# Altium schematic symbol library AltiumLibrary.SchLib: 93 symbols
Pins are listed as number, name and electrical type; pins without a type are passive.

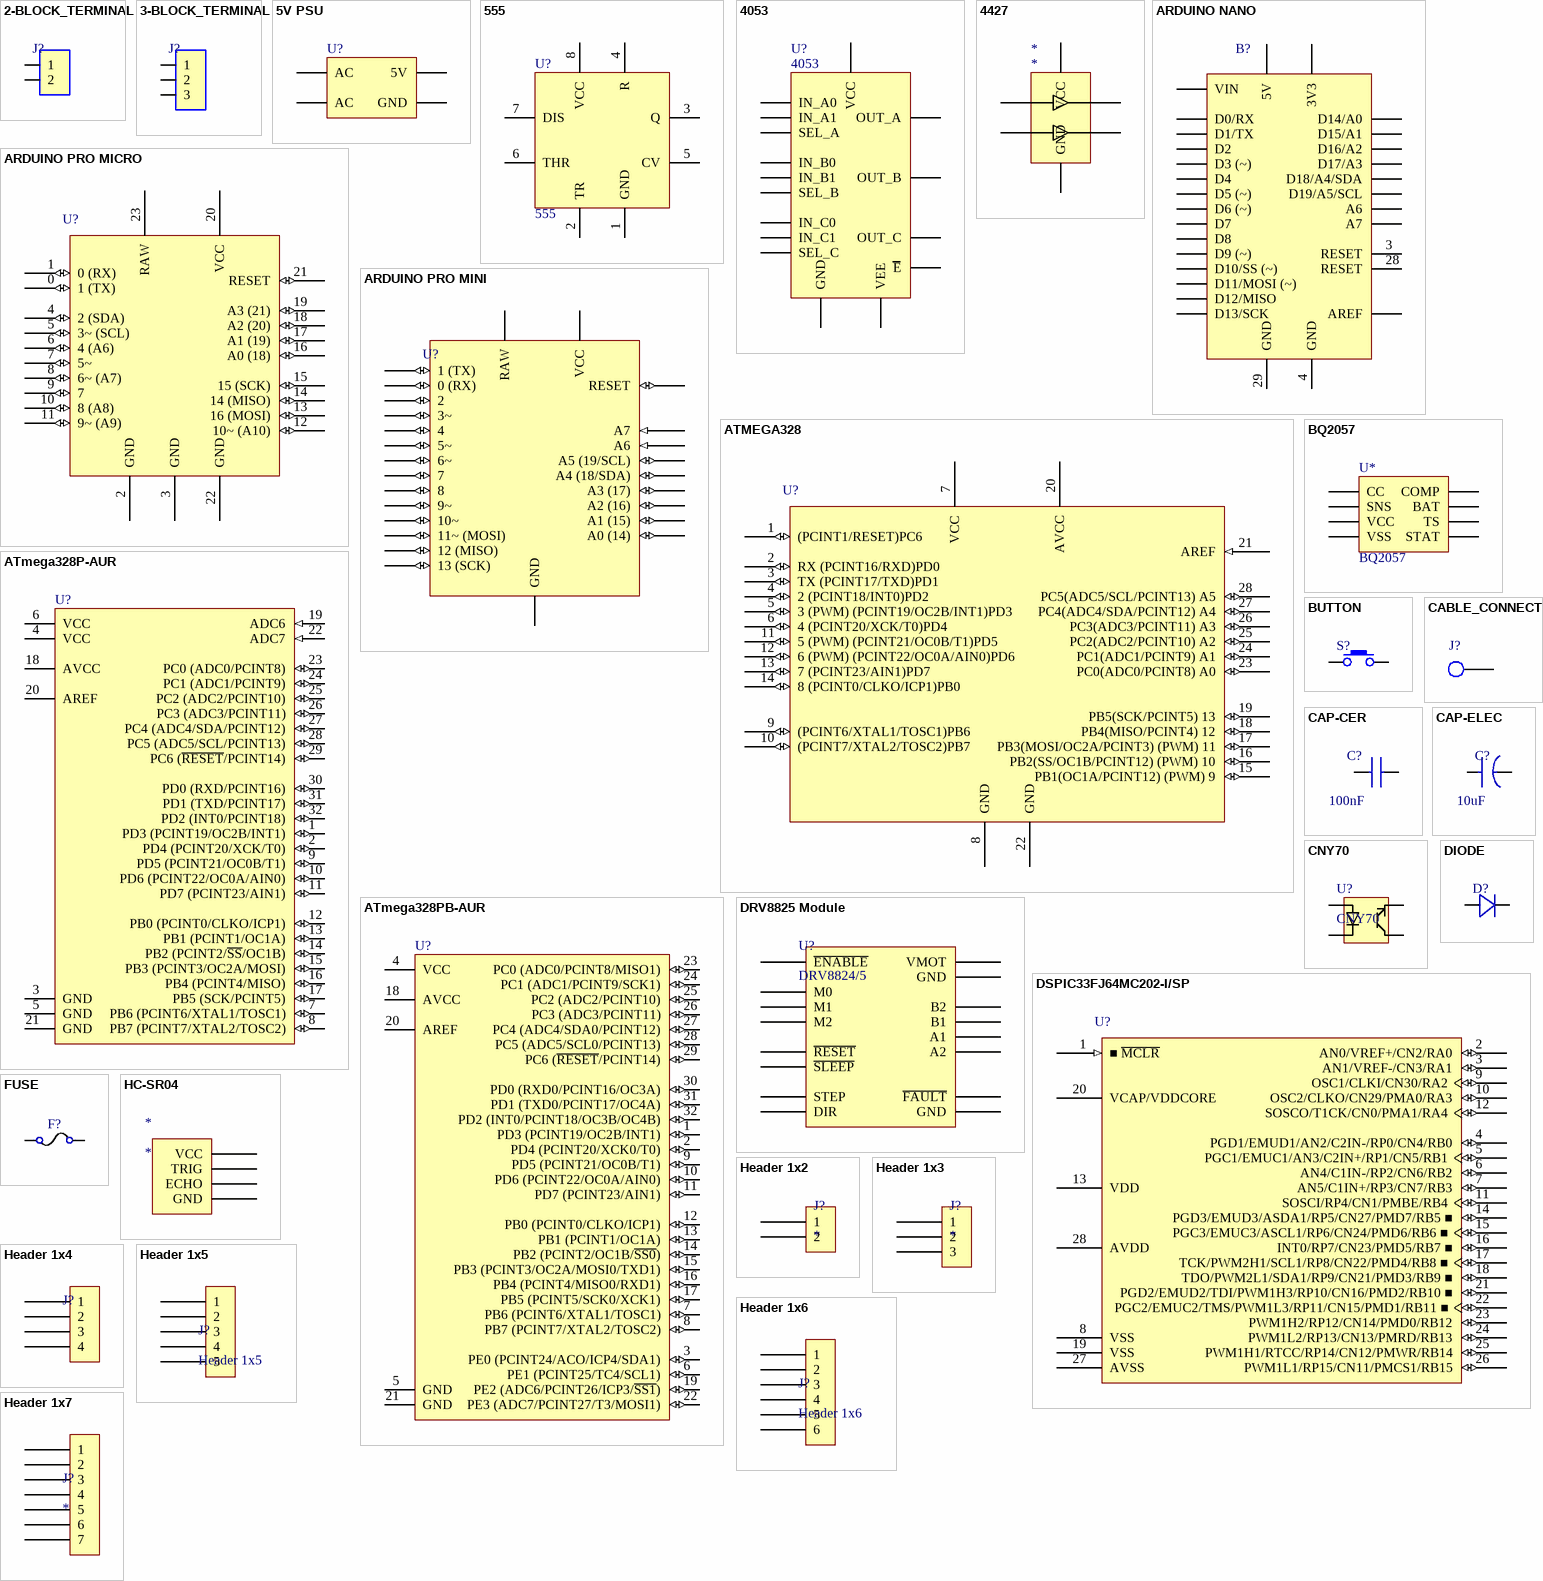
[diagram p0: symbols 2-BLOCK_TERMINAL to Header 1x7]

## 2-BLOCK_TERMINAL
designator J?  (value not drawn)
footprint BLOCK_TERMINAL-2
pins: 1, 2

## 3-BLOCK_TERMINAL
designator J?  (value not drawn)
footprint BLOCK_TERMINAL 3
pins: 1, 2, 3

## 5V PSU
designator U?  (value not drawn)
footprint HLK-PM01
pins: 1 AC, 2 AC, 3 5V, 4 GND

## 555
designator U?
footprint DIP8
footprint SOIC-8
pins: 1 GND, 2 TR, 3 Q, 4 R, 5 CV, 6 THR, 7 DIS, 8 VCC

## 4053
designator U?
footprint DIP16
pins: 1 IN_B1, 2 IN_B0, 3 IN_C1, 4 OUT_C, 5 IN_C0, 6 E, 7 VEE, 8 GND, 9 SEL_C, 10 SEL_B, 11 SEL_A, 12 IN_A0, 13 IN_A1, 14 OUT_A, 15 OUT_B, 16 VCC

## 4427
designator *
footprint SOIC-8
pins: 2 INA, 3 GND, 4 INB, 5 OUTB, 6 VCC, 7 OUTA

## ARDUINO NANO
designator B?
Manufacturer_Name: Arduino; Manufacturer_Part_Number: Nano; Allied_Number: 70518857; Geometry.Height: 7.62mm; RS Part Number: 6961667; RS Price/Stock: http://uk.rs-online.com/web/p/products/6961667; Allied Price/Stock: http://www.alliedelec.com/arduino-a000005/70518857/; Arrow Part Number: Nano; Arrow Price/Stock: http://uk.rs-online.com/web/p/products/6961667; Datasheet Link: http://docs-europe.electrocomponents.com/webdocs/0db9/0900766b80db99cb.pdf
footprint ARDUINO NANO
pins: 1 D1/TX, 2 D0/RX, 3 RESET, 4 GND, 5 D2, 6 D3 (~), 7 D4, 8 D5 (~), 9 D6 (~), 10 D7, 11 D8, 12 D9 (~), 13 D10/SS (~), 14 D11/MOSI (~), 15 D12/MISO, 16 D13/SCK, 17 3V3, 18 AREF, 19 D14/A0, 20 D15/A1, 21 D16/A2, 22 D17/A3, 23 D18/A4/SDA, 24 D19/A5/SCL, 25 A6, 26 A7, 27 5V, 28 RESET, 29 GND, 30 VIN

## ARDUINO PRO MICRO
designator U?, comment Arduino Pro Micro  (value not drawn)
footprint ARDUINO PRO MICRO
pins: 0 1 (TX) (io), 1 0 (RX) (io), 2 GND (power), 3 GND (power), 4 2 (SDA) (io), 5 3~ (SCL) (io), 6 4 (A6) (io), 7 5~ (io), 8 6~ (A7) (io), 9 7 (io), 10 8 (A8) (io), 11 9~ (A9) (io), 12 10~ (A10) (io), 13 16 (MOSI) (io), 14 14 (MISO) (io), 15 15 (SCK) (io), 16 A0 (18) (io), 17 A1 (19) (io), 18 A2 (20) (io), 19 A3 (21) (io), 20 VCC (power), 21 RESET (io), 22 GND (power), 23 RAW (power)

## ARDUINO PRO MINI
designator U?, comment Arduino Pro Mini  (value not drawn)
footprint ARDUINO PRO MINI
pins: 0 1 (TX) (io), 1 0 (RX) (io), 4 2 (io), 5 3~ (io), 6 4 (io), 7 5~ (io), 8 6~ (io), 9 7 (io), 10 8 (io), 11 9~ (io), 12 10~ (io), 13 11~ (MOSI) (io), 14 12 (MISO) (io), 15 13 (SCK) (io), 16 A0 (14) (io), 17 A1 (15) (io), 18 A2 (16) (io), 19 A3 (17) (io), 20 A4 (18/SDA) (io), 21 A5 (19/SCL) (io), 22 A6 (in), 23 A7 (in), 24 VCC (power), 25 RESET (io), 26 GND (power), 27 RAW (power)

## ATMEGA328
designator U?  (value not drawn)
footprint DIP28
pins: 1 (PCINT1/RESET)PC6 (io), 2 RX (PCINT16/RXD)PD0 (io), 3 TX (PCINT17/TXD)PD1 (io), 4 2 (PCINT18/INT0)PD2 (io), 5 3 (PWM) (PCINT19/OC2B/INT1)PD3 (io), 6 4 (PCINT20/XCK/T0)PD4 (io), 7 VCC (power), 8 GND (power), 9 (PCINT6/XTAL1/TOSC1)PB6 (io), 10 (PCINT7/XTAL2/TOSC2)PB7 (io), 11 5 (PWM) (PCINT21/OC0B/T1)PD5 (io), 12 6 (PWM) (PCINT22/OC0A/AIN0)PD6 (io), 13 7 (PCINT23/AIN1)PD7 (io), 14 8 (PCINT0/CLKO/ICP1)PB0  (io), 15 PB1(OC1A/PCINT12) (PWM) 9 (io), 16 PB2(SS/OC1B/PCINT12) (PWM) 10 (io), 17 PB3(MOSI/OC2A/PCINT3) (PWM) 11 (io), 18 PB4(MISO/PCINT4) 12 (io), 19 PB5(SCK/PCINT5) 13 (io), 20 AVCC (power), 21 AREF (in), 22 GND (power), 23 PC0(ADC0/PCINT8) A0 (io), 24 PC1(ADC1/PCINT9) A1 (io), 25 PC2(ADC2/PCINT10) A2 (io), 26 PC3(ADC3/PCINT11) A3 (io), 27 PC4(ADC4/SDA/PCINT12) A4 (io), 28 PC5(ADC5/SCL/PCINT13) A5 (io)

## ATmega328P-AUR
designator U?
8-bit AVR Microcontroller, 32KB Flash, 1KB EEPROM, 2KB SRAM, 32-pin TQFP, Industrial Grade (-40°C to 85°C), Reel; DatasheetVersion: revD, May-2011; PackageVersion: revC, Oct-2010; PackageReference: 32A; PackageDescription: 32-Lead, 7x7x1.0 mm Body, 0.8mm Lead Pitch, Thin Profile Plastic Quad Flat Package (TQFP); Code_JEDEC: MS-026-ABA; ComponentLink1Description: Manufacturer URL; ComponentLink1URL: http://www.atmel.com/; ComponentLink2Description: ATmega48A/48PA/88A/88PA/168A/168PA/328/328P Datasheet; ComponentLink2URL: http://www.atmel.com/dyn/resources/prod_documents/doc8271.pdf; ComponentLink3Description: ATmega48A/48PA/88A/88PA/168A/168PA/328/328P Summary; ComponentLink3URL: http://www.atmel.com/dyn/resources/prod_documents/8271S.pdf
footprint 32A_N (Thin QFP, 32-Leads, Body 7x7mm, Pitch 0.8mm, IPC Medium Density)
footprint 32A_L (Thin QFP, 32-Leads, Body 7x7mm, Pitch 0.8mm, IPC High Density)
footprint 32A_M (Thin QFP, 32-Leads, Body 7x7mm, Pitch 0.8mm, IPC Low Density)
pins: 1 PD3 (PCINT19/OC2B/INT1) (io), 2 PD4 (PCINT20/XCK/T0) (io), 3 GND (power), 4 VCC (power), 5 GND (power), 6 VCC (power), 7 PB6 (PCINT6/XTAL1/TOSC1) (io), 8 PB7 (PCINT7/XTAL2/TOSC2) (io), 9 PD5 (PCINT21/OC0B/T1) (io), 10 PD6 (PCINT22/OC0A/AIN0) (io), 11 PD7 (PCINT23/AIN1) (io), 12 PB0 (PCINT0/CLKO/ICP1) (io), 13 PB1 (PCINT1/OC1A) (io), 14 PB2 (PCINT2/~{SS}/OC1B) (io), 15 PB3 (PCINT3/OC2A/MOSI) (io), 16 PB4 (PCINT4/MISO) (io), 17 PB5 (SCK/PCINT5) (io), 18 AVCC (power), 19 ADC6 (in), 20 AREF, 21 GND (power), 22 ADC7 (in), 23 PC0 (ADC0/PCINT8) (io), 24 PC1 (ADC1/PCINT9) (io), 25 PC2 (ADC2/PCINT10) (io), 26 PC3 (ADC3/PCINT11) (io), 27 PC4 (ADC4/SDA/PCINT12) (io), 28 PC5 (ADC5/SCL/PCINT13) (io), 29 PC6 (~{RESET}/PCINT14) (io), 30 PD0 (RXD/PCINT16) (io), 31 PD1 (TXD/PCINT17) (io), 32 PD2 (INT0/PCINT18) (io)

## ATmega328PB-AUR
designator U?
8-bit AVR Microcontroller, 32KB Flash, 1KB EEPROM, 2KB SRAM, 32-pin TQFP, Industrial Grade (-40°C to 85°C), Reel; DatasheetVersion: revD, May-2011; PackageVersion: revC, Oct-2010; PackageReference: 32A; PackageDescription: 32-Lead, 7x7x1.0 mm Body, 0.8mm Lead Pitch, Thin Profile Plastic Quad Flat Package (TQFP); Code_JEDEC: MS-026-ABA; ComponentLink1Description: Manufacturer URL; ComponentLink1URL: http://www.atmel.com/; ComponentLink2Description: ATmega48A/48PA/88A/88PA/168A/168PA/328/328P Datasheet; ComponentLink2URL: http://www.atmel.com/dyn/resources/prod_documents/doc8271.pdf; ComponentLink3Description: ATmega48A/48PA/88A/88PA/168A/168PA/328/328P Summary; ComponentLink3URL: http://www.atmel.com/dyn/resources/prod_documents/8271S.pdf
footprint 32A_N (Thin QFP, 32-Leads, Body 7x7mm, Pitch 0.8mm, IPC Medium Density)
footprint 32A_L (Thin QFP, 32-Leads, Body 7x7mm, Pitch 0.8mm, IPC High Density)
footprint 32A_M (Thin QFP, 32-Leads, Body 7x7mm, Pitch 0.8mm, IPC Low Density)
pins: 1 PD3 (PCINT19/OC2B/INT1) (io), 2 PD4 (PCINT20/XCK0/T0) (io), 3 PE0 (PCINT24/ACO/ICP4/SDA1) (io), 4 VCC (power), 5 GND (power), 6 PE1 (PCINT25/TC4/SCL1) (io), 7 PB6 (PCINT6/XTAL1/TOSC1) (io), 8 PB7 (PCINT7/XTAL2/TOSC2) (io), 9 PD5 (PCINT21/OC0B/T1) (io), 10 PD6 (PCINT22/OC0A/AIN0) (io), 11 PD7 (PCINT23/AIN1) (io), 12 PB0 (PCINT0/CLKO/ICP1) (io), 13 PB1 (PCINT1/OC1A) (io), 14 PB2 (PCINT2/OC1B/~{SS0}) (io), 15 PB3 (PCINT3/OC2A/MOSI0/TXD1) (io), 16 PB4 (PCINT4/MISO0/RXD1) (io), 17 PB5 (PCINT5/SCK0/XCK1) (io), 18 AVCC (power), 19 PE2 (ADC6/PCINT26/ICP3/~{SS1}) (io), 20 AREF, 21 GND (power), 22 PE3 (ADC7/PCINT27/T3/MOSI1) (io), 23 PC0 (ADC0/PCINT8/MISO1) (io), 24 PC1 (ADC1/PCINT9/SCK1) (io), 25 PC2 (ADC2/PCINT10) (io), 26 PC3 (ADC3/PCINT11) (io), 27 PC4 (ADC4/SDA0/PCINT12) (io), 28 PC5 (ADC5/SCL0/PCINT13) (io), 29 PC6 (~{RESET}/PCINT14) (io), 30 PD0 (RXD0/PCINT16/OC3A) (io), 31 PD1 (TXD0/PCINT17/OC4A) (io), 32 PD2 (INT0/PCINT18/OC3B/OC4B) (io)

## BQ2057
designator U*
footprint SOIC-8
pins: 1 SNS, 2 BAT, 3 VCC, 4 TS, 5 STAT, 6 VSS, 7 CC, 8 COMP

## BUTTON
designator S?  (value not drawn)
footprint TACT_SWITCH-SMALL-4PIN
footprint TACT-SWITCH-SMD
pins: 1, 2

## CABLE_CONNECTOR
designator J?  (value not drawn)
footprint CABLE_CONNECTOR
pins: 0

## CAP-CER
designator C?  value 100nF  (hidden comment: *)
footprint CAP-CER
footprint C0603
footprint C1206
footprint C0805
footprint CAP_POL_20MM
pins: 1, 2

## CAP-ELEC
designator C?  value 10uF  (hidden comment: *)
footprint CAP-ELEC-5x11x2mm
footprint CAP-CASE-D
pins: 1, 2

## CNY70
designator U?
footprint CNY70
pins: A, C, E 7.5, K

## DIODE
designator D?  (value not drawn)
NAME: 1N4007
footprint DO-41
footprint DO-214AC
footprint DO-41 VERTICAL
pins: A, K

## DRV8825 Module
designator U?, comment DRV8824/5
footprint DRV8825 MDL
pins: 1 ~{ENABLE}, 2 M0, 3 M1, 4 M2, 5 ~{RESET}, 6 ~{SLEEP}, 7 STEP, 8 DIR, 9 GND, 10 ~{FAULT}, 11 A2, 12 A1, 13 B1, 14 B2, 15 GND, 16 VMOT

## DSPIC33FJ64MC202-I/SP
designator U?
High-Performance 16-bit Digital Signal Controller, 64 KB Flash, 8 KB RAM, 28-Pin SPDIP, Industrial Temperature; Published: 29-Jan-2009; LatestRevisionDate: 02-Dec-2009; LatestRevisionNote: Updated to datasheet revision D, Nov-2009; DatasheetVersion: revD, Nov-2009; PackageVersion: revBB, Aug-2009; PackageReference: SPDIP300-SP28; Publisher: Altium Limited; PackageDescription: 28-Lead Skinny Plastic Dual In-Line (SP) - 300 mil Body [SPDIP]; Supplier 1: Digi-Key; Supplier Part Number 1: DSPIC33FJ64MC202-I/SP-ND; Supplier 2: Farnell; Supplier Part Number 2: 1576836; ComponentLink1Description: Datasheet; ComponentLink1URL: http://ww1.microchip.com/downloads/en/DeviceDoc/70291D.pdf; ComponentLink2Description: Packaging Specification; ComponentLink2URL: http://www.microchip.com/stellent/groups/techpub_sg/documents/packagingspec/en012702.pdf; ComponentLink3Description: Microchip.com Home; ComponentLink3URL: http://www.microchip.com/
footprint DIP28
pins: 1 ■ ~{MCLR} (in), 2 AN0/VREF+/CN2/RA0 (io), 3 AN1/VREF-/CN3/RA1 (io), 4 PGD1/EMUD1/AN2/C2IN-/RP0/CN4/RB0 (io), 5 PGC1/EMUC1/AN3/C2IN+/RP1/CN5/RB1 (io), 6 AN4/C1IN-/RP2/CN6/RB2 (io), 7 AN5/C1IN+/RP3/CN7/RB3 (io), 8 VSS (power), 9 OSC1/CLKI/CN30/RA2 (io), 10 OSC2/CLKO/CN29/PMA0/RA3 (io), 11 SOSCI/RP4/CN1/PMBE/RB4 (io), 12 SOSCO/T1CK/CN0/PMA1/RA4 (io), 13 VDD (power), 14 PGD3/EMUD3/ASDA1/RP5/CN27/PMD7/RB5 ■ (io), 15 PGC3/EMUC3/ASCL1/RP6/CN24/PMD6/RB6 ■ (io), 16 INT0/RP7/CN23/PMD5/RB7 ■ (io), 17 TCK/PWM2H1/SCL1/RP8/CN22/PMD4/RB8 ■ (io), 18 TDO/PWM2L1/SDA1/RP9/CN21/PMD3/RB9 ■ (io), 19 VSS (power), 20 VCAP/VDDCORE (power), 21 PGD2/EMUD2/TDI/PWM1H3/RP10/CN16/PMD2/RB10 ■ (io), 22 PGC2/EMUC2/TMS/PWM1L3/RP11/CN15/PMD1/RB11 ■ (io), 23 PWM1H2/RP12/CN14/PMD0/RB12 (io), 24 PWM1L2/RP13/CN13/PMRD/RB13 (io), 25 PWM1H1/RTCC/RP14/CN12/PMWR/RB14 (io), 26 PWM1L1/RP15/CN11/PMCS1/RB15 (io), 27 AVSS (power), 28 AVDD (power)

## FUSE
designator F?  (value not drawn)
RATING: 200mA
footprint FUSE_HOLDER_5x20
pins: 1 (power), 2 (power)

## HC-SR04
designator *
footprint HC-SR04
pins: 1 VCC, 2 TRIG, 3 ECHO, 4 GND

## Header 1x2
designator J?
footprint HEADER 1x2
pins: 1, 2

## Header 1x3
designator J?
footprint Header 1x3
pins: 1, 2, 3

## Header 1x4
designator J?  (value not drawn)
footprint Header 1x4
pins: 1, 2, 3, 4

## Header 1x5
designator J?
footprint Header 1x5
pins: 1, 2, 3, 4, 5

## Header 1x6
designator J?
footprint Header 1x6
pins: 1, 2, 3, 4, 5, 6

## Header 1x7
designator J?
footprint Header 1x7
pins: 1, 2, 3, 4, 5, 6, 7

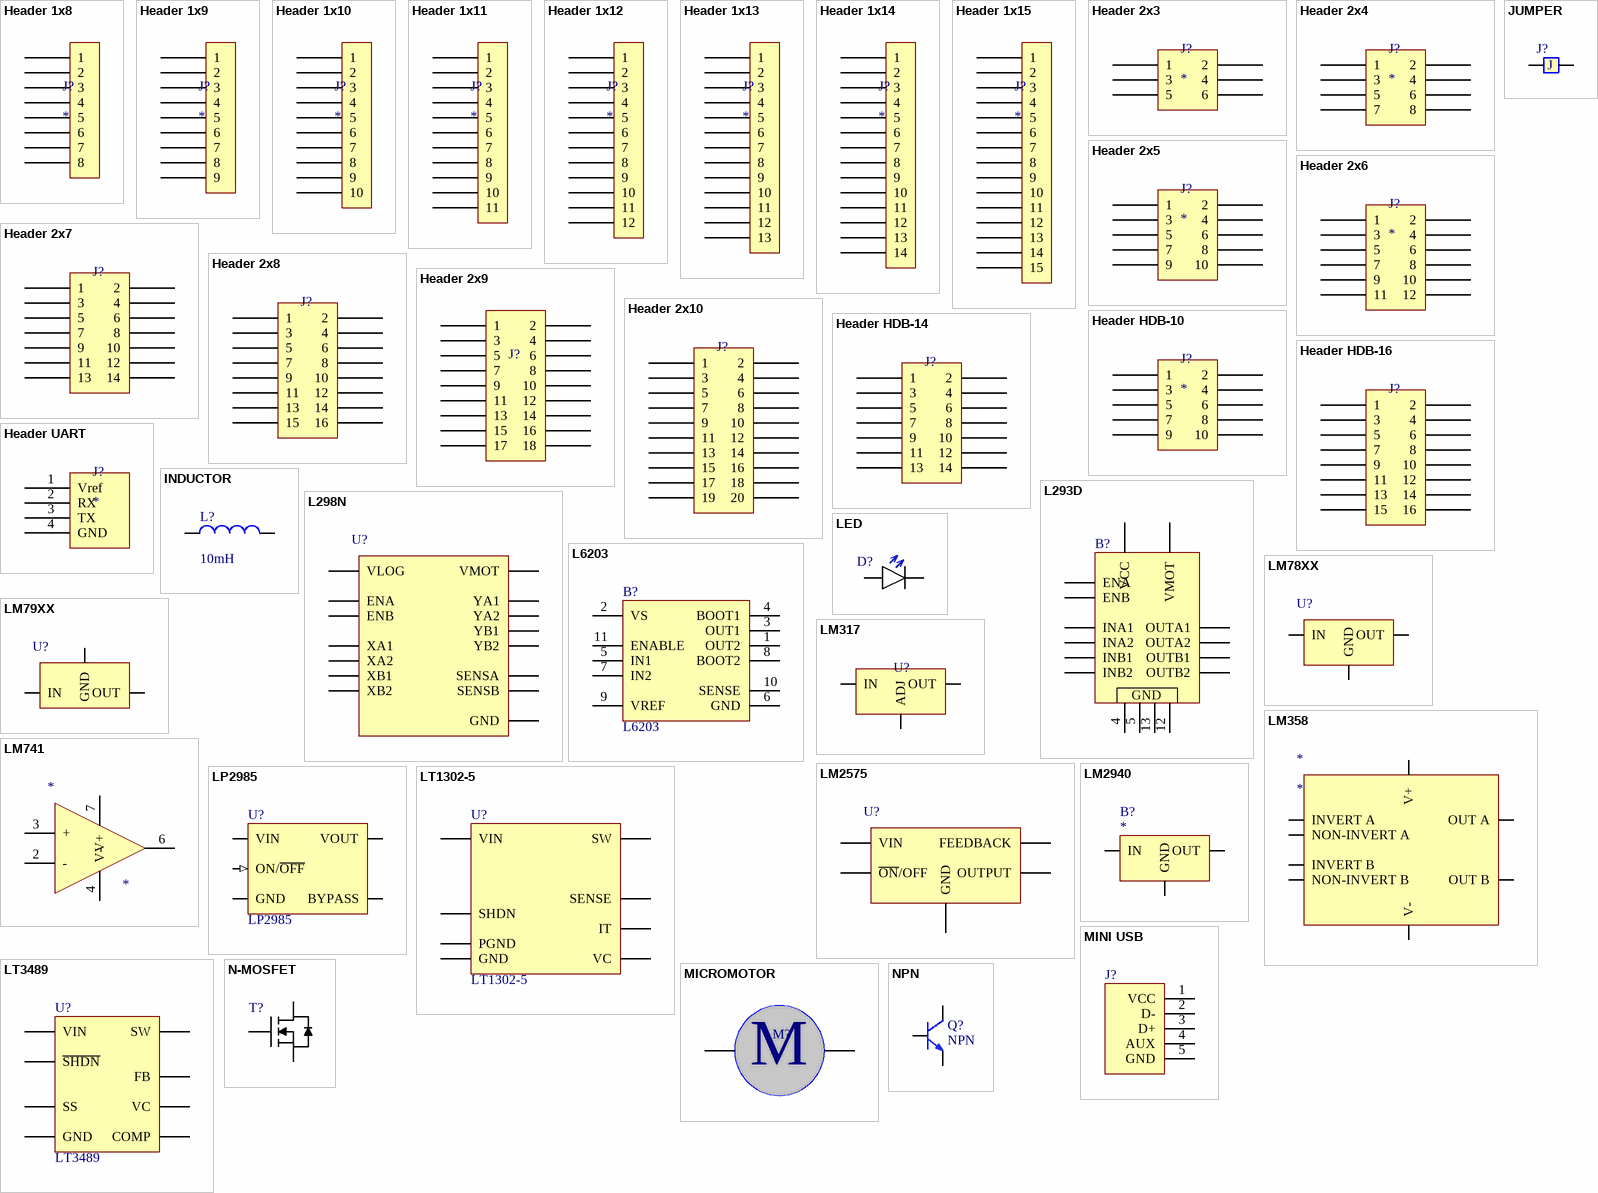
[diagram p1: symbols Header 1x8 to NPN]

## Header 1x8
designator J?
footprint HEADER 1X8
pins: 1, 2, 3, 4, 5, 6, 7, 8

## Header 1x9
designator J?
footprint HEADER 1x9
pins: 1, 2, 3, 4, 5, 6, 7, 8, 9

## Header 1x10
designator J?
footprint HEADER 1x10
pins: 1, 2, 3, 4, 5, 6, 7, 8, 9, 10

## Header 1x11
designator J?
footprint Header 1x11
pins: 1, 2, 3, 4, 5, 6, 7, 8, 9, 10, 11

## Header 1x12
designator J?
footprint Header 1x12
pins: 1, 2, 3, 4, 5, 6, 7, 8, 9, 10, 11, 12

## Header 1x13
designator J?
footprint Header 1x13
pins: 1, 2, 3, 4, 5, 6, 7, 8, 9, 10, 11, 12, 13

## Header 1x14
designator J?
footprint Header 1x14
pins: 1, 2, 3, 4, 5, 6, 7, 8, 9, 10, 11, 12, 13, 14

## Header 1x15
designator J?
footprint Header 1x15
pins: 1, 2, 3, 4, 5, 6, 7, 8, 9, 10, 11, 12, 13, 14, 15

## Header 2x3
designator J?
footprint HEADER 2x3
pins: 1, 2, 3, 4, 5, 6

## Header 2x4
designator J?
footprint HEADER 2x4
pins: 1, 2, 3, 4, 5, 6, 7, 8

## Header 2x5
designator J?
footprint HEADER 2x5
pins: 1, 2, 3, 4, 5, 6, 7, 8, 9, 10

## Header 2x6
designator J?
footprint HEADER 2x6
pins: 1, 2, 3, 4, 5, 6, 7, 8, 9, 10, 11, 12

## Header 2x7
designator J?  (value not drawn)
footprint HEADER 2x7
pins: 1, 2, 3, 4, 5, 6, 7, 8, 9, 10, 11, 12, 13, 14

## Header 2x8
designator J?  (value not drawn)
footprint HEADER 2x8
pins: 1, 2, 3, 4, 5, 6, 7, 8, 9, 10, 11, 12, 13, 14, 15, 16

## Header 2x9
designator J?  (value not drawn)
footprint HEADER 2x9
pins: 1, 2, 3, 4, 5, 6, 7, 8, 9, 10, 11, 12, 13, 14, 15, 16, 17, 18

## Header 2x10
designator J?  (value not drawn)
footprint HEADER 2x10
pins: 1, 2, 3, 4, 5, 6, 7, 8, 9, 10, 11, 12, 13, 14, 15, 16, 17, 18, 19, 20

## Header HDB-10
designator J?
footprint HEADER 2x5
pins: 1, 2, 3, 4, 5, 6, 7, 8, 9, 10

## Header HDB-14
designator J?  (value not drawn)
footprint HEADER 2x7
pins: 1, 2, 3, 4, 5, 6, 7, 8, 9, 10, 11, 12, 13, 14

## Header HDB-16
designator J?  (value not drawn)
footprint HEADER 2x8
pins: 1, 2, 3, 4, 5, 6, 7, 8, 9, 10, 11, 12, 13, 14, 15, 16

## Header UART
designator J?
footprint Header 1x4
pins: 1 Vref, 2 RX, 3 TX, 4 GND

## INDUCTOR
designator L?  value 10mH
footprint DRQ127-INDUCTOR
footprint RADIAL-7x10
footprint IND_AXIAL_400mil
footprint CTXxx-3
pins: 1, 2

## JUMPER
designator J?  (value not drawn)
footprint JUMPER
pins: 1, 2
text: J

## L293D
designator B?
footprint DIP16
footprint SOIC-16
pins: 1 ENA, 2 INA1, 3 OUTA1, 4, 5, 6 OUTA2, 7 INA2, 8 VMOT, 9 ENB, 10 INB1, 11 OUTB1, 12, 13, 14 OUTB2, 15 INB2, 16 VCC
text: GND

## L298N
designator U?  (value not drawn)
footprint Multiwatt15
pins: 1 SENSA, 2 YA1, 3 YA2, 4 VMOT, 5 XA1, 6 ENA, 7 XA2, 8 GND, 9 VLOG, 10 XB2, 11 ENB, 12 XB1, 13 YB1, 14 YB2, 15 SENSB

## L6203
designator B?
DC motor controller,L6203 0-48V STMicroelectronics L6203, Motor Controller Full Bridge Motor,, 11-Pin MULTIWATT V; Geometry.Height: 5mm; Arrow Part Number: L6203; Manufacturer_Name: STMicroelectronics; Manufacturer_Part_Number: L6203; Datasheet Link: https://www.arrow.com/en/products/l6203/stmicroelectronics
footprint MUTIWATT11
pins: 1 OUT2, 2 VS (power), 3 OUT1, 4 BOOT1, 5 IN1, 6 GND, 7 IN2, 8 BOOT2, 9 VREF (power), 10 SENSE, 11 ENABLE

## LED
designator D?  (value not drawn)
footprint LED-3MM-GREEN
footprint LED-3MM-YELLOW
footprint LED-3MM-RED
footprint LED-0603-GREEN
footprint LED-0603-RED
footprint LED-0603-YELLOW
footprint LED-5MM-CLEAR
footprint LED-5MM-RED-90
footprint LED-5MM-RED-90-2
pins: A, K

## LM78XX
designator U?  (value not drawn)
footprint TO-220
footprint TO-252
footprint TO-220-FLAT
pins: 1 IN (power), 2 GND (power), 3 OUT (power)

## LM79XX
designator U?  (value not drawn)
footprint TO-220
footprint TO-252
footprint TO-220-FLAT
pins: 1 GND (power), 2 IN (power), 3 OUT (power)

## LM317
designator U?  (value not drawn)
footprint TO-220-FLAT
footprint TO-252
footprint TO-220
pins: 1 IN (power), 2 ADJ (power), 3 OUT (power)

## LM358
designator *
footprint DIP8
footprint SOIC-8
pins: 1 OUT A, 2 INVERT A, 3 NON-INVERT A, 4 V-, 5 NON-INVERT B, 6 INVERT B, 7  OUT B, 8 V+ 

## LM741
designator *
footprint SOIC-8
footprint DIP8
pins: 2 -, 3 +, 4 V-, 6 OUT, 7 V+

## LM2575
designator U?  (value not drawn)
footprint TO-220-5PIN
pins: 1 VIN (power), 2 OUTPUT (power), 3 GND (power), 4 FEEDBACK (power), 5 ~{ON}/OFF (power)

## LM2940
designator B?
footprint TO-263
pins: 1 IN (power), 2 GND (power), 3 OUT (power)

## LP2985
designator U?
footprint SOT-23-5
pins: 1 VIN (power), 2 GND (power), 3 ON/~{OFF} (in), 4 BYPASS, 5 VOUT

## LT1302-5
designator U?
footprint SOIC-8
pins: 1 GND, 2 VC, 3 SHDN, 4 SENSE, 5 IT, 6 VIN, 7 SW, 8 PGND

## LT3489
designator U?
footprint MSOP-8
pins: 1 VC, 2 FB, 3 ~{SHDN}, 4 GND, 5 SW, 6 VIN, 7 COMP, 8 SS

## MICROMOTOR
designator M?  (value not drawn)
footprint MICROMOTOR
pins: 1, 2
text: M

## MINI USB
designator J?  (value not drawn)
footprint 5075BMR-05
pins: 1 VCC, 2 D-, 3 D+, 4 AUX, 5 GND

## N-MOSFET
designator T?, comment N-MOS  (value not drawn)
footprint TO-220; pin to pad D>2 G>1 S>3
footprint SOIC-8
footprint TO-220-FLAT
footprint SOT-23; pin to pad D>C G>B S>E
pins: D, G, S

## NPN
designator Q?
footprint TO-92
footprint SOT-23
footprint TO-126; pin to pad B>3 C>2 E>1
footprint TO-18
pins: B, C, E

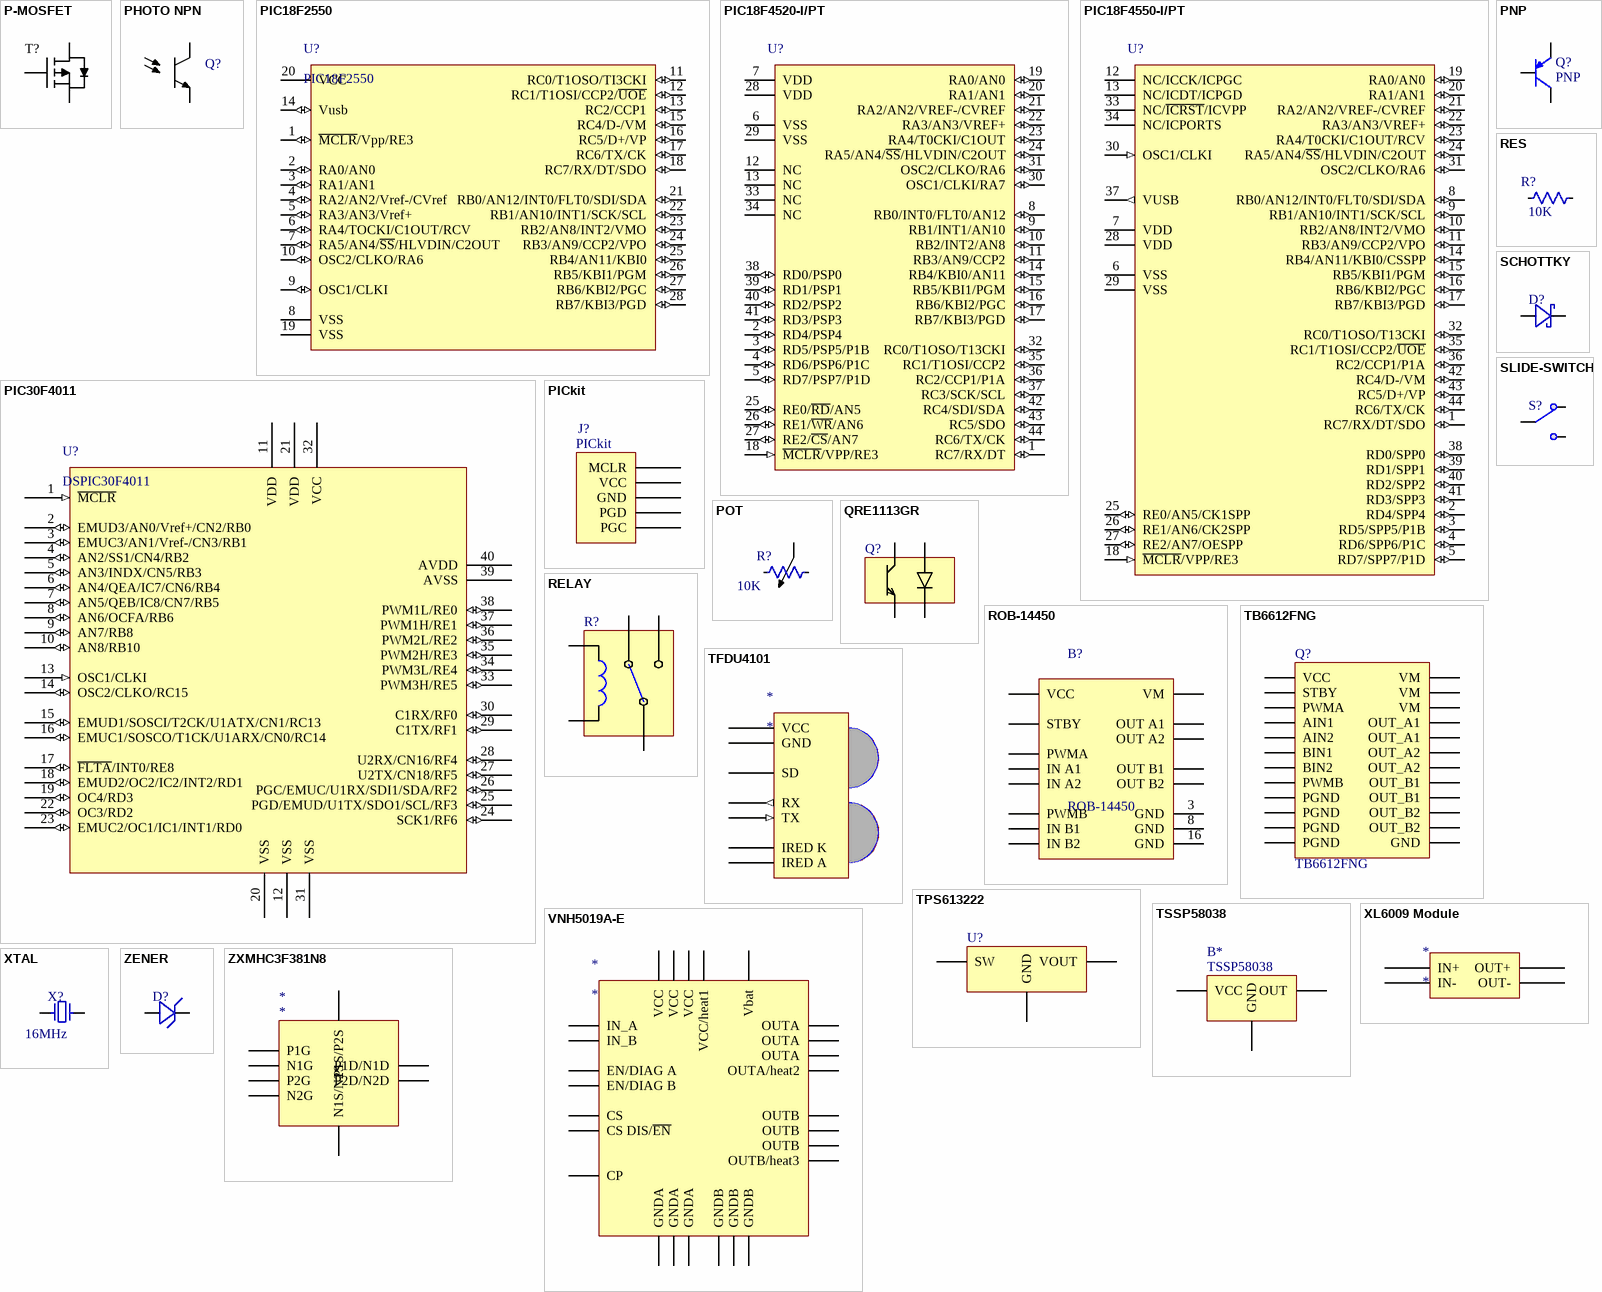
[diagram p2: symbols P-MOSFET to ZXMHC3F381N8]

## P-MOSFET
designator T?, comment P-MOS  (value not drawn)
footprint TO-220; pin to pad D>2 G>1 S>3
footprint TO-220-FLAT
footprint SOIC-8 MOS
pins: D, G, S

## PHOTO NPN
designator Q?  (value not drawn)
footprint PHOTO-NPN
footprint PHOTO-NPN-2
pins: C, E

## PIC18F2550
designator U?
footprint DIP28
footprint SOIC-SO28_M (SOIC, 28-Leads, Body 17.9x7.5mm, Pitch 1.27mm, IPC Low Density)
footprint SOIC-SO28_N (SOIC, 28-Leads, Body 17.9x7.5mm, Pitch 1.27mm, IPC Medium Density)
pins: 1 ~{MCLR}/Vpp/RE3 (io), 2 RA0/AN0 (io), 3 RA1/AN1 (io), 4 RA2/AN2/Vref-/CVref (io), 5 RA3/AN3/Vref+ (io), 6 RA4/TOCKI/C1OUT/RCV (io), 7 RA5/AN4/~{SS}/HLVDIN/C2OUT (io), 8 VSS (power), 9 OSC1/CLKI (io), 10 OSC2/CLKO/RA6 (io), 11 RC0/T1OSO/TI3CKI (io), 12 RC1/T1OSI/CCP2/~{UOE} (io), 13 RC2/CCP1 (io), 14 Vusb (io), 15 RC4/D-/VM (io), 16 RC5/D+/VP (io), 17 RC6/TX/CK (io), 18 RC7/RX/DT/SDO (io), 19 VSS (power), 20 VCC (power), 21 RB0/AN12/INT0/FLT0/SDI/SDA (io), 22 RB1/AN10/INT1/SCK/SCL (io), 23 RB2/AN8/INT2/VMO (io), 24 RB3/AN9/CCP2/VPO (io), 25 RB4/AN11/KBI0 (io), 26 RB5/KBI1/PGM (io), 27 RB6/KBI2/PGC (io), 28 RB7/KBI3/PGD (io)

## PIC18F4520-I/PT
designator U?
Enhanced Flash Microcontroller with 10-Bit A/D and nanoWatt Technology, 32K Flash, 44-Pin TQFP, Industrial Temperature Range; Published: 29-Jan-2009; LatestRevisionDate: 02-Dec-2009; LatestRevisionNote: Updated to datasheet revision E, Oct-2008; DatasheetVersion: revE, Oct-2008; PackageVersion: revBB, Aug-2009; PackageReference: TQFP-PT44; Publisher: Altium Limited; PackageDescription: 44-Lead Plastic Thin Quad Flatpack (PT) - 10x10x1mm Body, 2.00mm [TQFP]; Supplier 1: Digi-Key; Supplier Part Number 1: PIC18F4520-I/PT-ND; Supplier 2: Farnell; Supplier Part Number 2: 1212703; Supplier 3: Farnell; Supplier Part Number 3: 1528362; Code_JEDEC: MS-026; ComponentLink1Description: Datasheet; ComponentLink1URL: http://ww1.microchip.com/downloads/en/DeviceDoc/39631E.pdf; ComponentLink2Description: Packaging Specification; ComponentLink2URL: http://www.microchip.com/stellent/groups/techpub_sg/documents/packagingspec/en012702.pdf; ComponentLink3Description: Microchip.com Home; ComponentLink3URL: http://www.microchip.com/
footprint TQFP-PT44_N (Thin QFP, 44-Leads, Body 10x10mm, Pitch 0.8mm, IPC Medium Density)
footprint TQFP-PT44_L (Thin QFP, 44-Leads, Body 10x10mm, Pitch 0.8mm, IPC High Density)
footprint TQFP-PT44_M (Thin QFP, 44-Leads, Body 10x10mm, Pitch 0.8mm, IPC Low Density)
pins: 1 RC7/RX/DT (io), 2 RD4/PSP4 (io), 3 RD5/PSP5/P1B (io), 4 RD6/PSP6/P1C (io), 5 RD7/PSP7/P1D (io), 6 VSS (power), 7 VDD (power), 8 RB0/INT0/FLT0/AN12 (io), 9 RB1/INT1/AN10 (io), 10 RB2/INT2/AN8 (io), 11 RB3/AN9/CCP2 (io), 12 NC, 13 NC, 14 RB4/KBI0/AN11 (io), 15 RB5/KBI1/PGM (io), 16 RB6/KBI2/PGC (io), 17 RB7/KBI3/PGD (io), 18 ~{MCLR}/VPP/RE3 (in), 19 RA0/AN0 (io), 20 RA1/AN1 (io), 21 RA2/AN2/VREF-/CVREF (io), 22 RA3/AN3/VREF+ (io), 23 RA4/T0CKI/C1OUT (io), 24 RA5/AN4/~{SS}/HLVDIN/C2OUT (io), 25 RE0/~{RD}/AN5 (io), 26 RE1/~{WR}/AN6 (io), 27 RE2/~{CS}/AN7 (io), 28 VDD (power), 29 VSS (power), 30 OSC1/CLKI/RA7 (io), 31 OSC2/CLKO/RA6 (io), 32 RC0/T1OSO/T13CKI (io), 33 NC, 34 NC, 35 RC1/T1OSI/CCP2 (io), 36 RC2/CCP1/P1A (io), 37 RC3/SCK/SCL (io), 38 RD0/PSP0 (io), 39 RD1/PSP1 (io), 40 RD2/PSP2 (io), 41 RD3/PSP3 (io), 42 RC4/SDI/SDA (io), 43 RC5/SDO (io), 44 RC6/TX/CK (io)

## PIC18F4550-I/PT
designator U?
High Performance, Enhanced Flash, USB Microcontroller with nanoWatt Technology, 32K Flash, 44-Pin TQFP, Industrial Temperature Range; Published: 29-Jan-2009; LatestRevisionDate: 02-Dec-2009; LatestRevisionNote: Updated to datasheet revision E, Aug-2008; DatasheetVersion: revE, Aug-2008; PackageVersion: revBB, Aug-2009; PackageReference: TQFP-PT44; Publisher: Altium Limited; PackageDescription: 44-Lead Plastic Thin Quad Flatpack (PT) - 10x10x1mm Body, 2.00mm [TQFP]; Supplier 1: Digi-Key; Supplier Part Number 1: PIC18F4550-I/PT-ND; Supplier 2: Farnell; Supplier Part Number 2: 9321365; Supplier 3: Farnell; Supplier Part Number 3: 1528447; Code_JEDEC: MS-026; ComponentLink1Description: Datasheet; ComponentLink1URL: http://ww1.microchip.com/downloads/en/DeviceDoc/39632e.pdf; ComponentLink2Description: Packaging Specification; ComponentLink2URL: http://www.microchip.com/stellent/groups/techpub_sg/documents/packagingspec/en012702.pdf; ComponentLink3Description: Microchip.com Home; ComponentLink3URL: http://www.microchip.com/
footprint TQFP-PT44_N (Thin QFP, 44-Leads, Body 10x10mm, Pitch 0.8mm, IPC Medium Density)
footprint TQFP-PT44_L (Thin QFP, 44-Leads, Body 10x10mm, Pitch 0.8mm, IPC High Density)
footprint TQFP-PT44_M (Thin QFP, 44-Leads, Body 10x10mm, Pitch 0.8mm, IPC Low Density)
pins: 1 RC7/RX/DT/SDO (io), 2 RD4/SPP4 (io), 3 RD5/SPP5/P1B (io), 4 RD6/SPP6/P1C (io), 5 RD7/SPP7/P1D (io), 6 VSS (power), 7 VDD (power), 8 RB0/AN12/INT0/FLT0/SDI/SDA (io), 9 RB1/AN10/INT1/SCK/SCL (io), 10 RB2/AN8/INT2/VMO (io), 11 RB3/AN9/CCP2/VPO (io), 12 NC/ICCK/ICPGC, 13 NC/ICDT/ICPGD, 14 RB4/AN11/KBI0/CSSPP (io), 15 RB5/KBI1/PGM (io), 16 RB6/KBI2/PGC (io), 17 RB7/KBI3/PGD (io), 18 ~{MCLR}/VPP/RE3 (in), 19 RA0/AN0 (io), 20 RA1/AN1 (io), 21 RA2/AN2/VREF-/CVREF (io), 22 RA3/AN3/VREF+ (io), 23 RA4/T0CKI/C1OUT/RCV (io), 24 RA5/AN4/~{SS}/HLVDIN/C2OUT (io), 25 RE0/AN5/CK1SPP (io), 26 RE1/AN6/CK2SPP (io), 27 RE2/AN7/OESPP (io), 28 VDD (power), 29 VSS (power), 30 OSC1/CLKI (in), 31 OSC2/CLKO/RA6 (io), 32 RC0/T1OSO/T13CKI (io), 33 NC/~{ICRST}/ICVPP, 34 NC/ICPORTS, 35 RC1/T1OSI/CCP2/~{UOE} (io), 36 RC2/CCP1/P1A (io), 37 VUSB (out), 38 RD0/SPP0 (io), 39 RD1/SPP1 (io), 40 RD2/SPP2 (io), 41 RD3/SPP3 (io), 42 RC4/D-/VM (io), 43 RC5/D+/VP (io), 44 RC6/TX/CK (io)

## PIC30F4011
designator U?, comment DSPIC30F4011
footprint DIP40
pins: 1 ~{MCLR} (in), 2 EMUD3/AN0/Vref+/CN2/RB0 (io), 3 EMUC3/AN1/Vref-/CN3/RB1 (io), 4 AN2/SS1/CN4/RB2 (io), 5 AN3/INDX/CN5/RB3 (io), 6 AN4/QEA/IC7/CN6/RB4 (io), 7 AN5/QEB/IC8/CN7/RB5 (io), 8 AN6/OCFA/RB6 (io), 9 AN7/RB8 (io), 10 AN8/RB10 (io), 11 VDD (power), 12 VSS (power), 13 OSC1/CLKI (in), 14 OSC2/CLKO/RC15 (io), 15 EMUD1/SOSCI/T2CK/U1ATX/CN1/RC13 (io), 16 EMUC1/SOSCO/T1CK/U1ARX/CN0/RC14 (io), 17 ~{FLTA}/INT0/RE8 (io), 18 EMUD2/OC2/IC2/INT2/RD1 (io), 19 OC4/RD3 (io), 20 VSS (power), 21 VDD (power), 22 OC3/RD2 (io), 23 EMUC2/OC1/IC1/INT1/RD0 (io), 24 SCK1/RF6 (io), 25 PGD/EMUD/U1TX/SDO1/SCL/RF3 (io), 26 PGC/EMUC/U1RX/SDI1/SDA/RF2 (io), 27 U2TX/CN18/RF5 (io), 28 U2RX/CN16/RF4 (io), 29 C1TX/RF1 (io), 30 C1RX/RF0 (io), 31 VSS (power), 32 VCC (power), 33 PWM3H/RE5 (io), 34 PWM3L/RE4 (io), 35 PWM2H/RE3 (io), 36 PWM2L/RE2 (io), 37 PWM1H/RE1 (io), 38 PWM1L/RE0 (io), 39 AVSS (power), 40 AVDD (power)

## PICkit
designator J?
footprint Header 1x5
pins: 1 MCLR, 2 VCC (power), 3 GND (power), 4 PGD, 5 PGC

## PNP
designator Q?
footprint TO-92
footprint SOT-23
pins: B, C, E

## POT
designator R?  value 10K
footprint TRIMPOT
footprint POT-10ROT
pins: 1, 2, 3

## QRE1113GR
designator Q?  (value not drawn)
MF: ON Semiconductor; Price: 0.46 USD; MP: QRE1113GR; Package: SMD-4 ON Semiconductor; Availability: Good; Value: *
footprint QRE1113GR
pins: A, C, E, K

## RELAY
designator R?  (value not drawn)
footprint RELAY
pins: C, C1, C2, NC, NO

## RES
designator R?  value 10K
footprint RES-Axial-400mil
footprint RES-AXIAL-5W
footprint R0603
footprint R1206
footprint R0805 (Chip)
footprint RES VERTICAL
pins: 1, 2

## ROB-14450
designator B?
Power Management IC Development Tools SparkFun MotorDriver Dual TB6612FNG Head.; Geometry.Height: 5mm; Manufacturer_Name: SparkFun; Manufacturer_Part_Number: ROB-14450; RS Part Number: *; RS Price/Stock: *; Arrow Part Number: ROB-14450; Arrow Price/Stock: *; Datasheet Link: https://www.sparkfun.com/products/14450
footprint ROB-14450
pins: 1 VM, 2 VCC, 3 GND, 4 OUT A1, 5 OUT A2, 6 OUT B2, 7 OUT B1, 8 GND, 9 PWMA, 10 IN A2, 11 IN A1, 12 STBY, 13 IN B1, 14 IN B2, 15 PWMB, 16 GND

## SCHOTTKY
designator D?  (value not drawn)
NAME: 1N5819
footprint DO-41
footprint DO-214AC
footprint DO-41 VERTICAL
footprint DO-214AA
pins: A, K

## SLIDE-SWITCH
designator S?  (value not drawn)
footprint SWITCH
pins: 1 (power), 2 (power), 3 (power)

## TB6612FNG
designator Q?
otor / Motion / Ignition Controllers & Drivers Brush Motor Driver IC; Manufacturer_Name: Toshiba; Manufacturer_Part_Number: TB6612FNG,C,8,EL; Geometry.Height: 1.6mm; RS Part Number: *; RS Price/Stock: *; Arrow Part Number: TB6612FNG,C,8,EL; Arrow Price/Stock: https://www.arrow.com/en/products/tb6612fngc8el/toshiba; Datasheet Link: http://toshiba.semicon-storage.com/info/docget.jsp?did=10660&prodName=TB6612FNG
footprint SSOP24
pins: 1 OUT_A1, 2 OUT_A1, 3 PGND, 4 PGND, 5 OUT_A2, 6 OUT_A2, 7 OUT_B2, 8 OUT_B2, 9 PGND, 10 PGND, 11 OUT_B1, 12 OUT_B1, 13 VM, 14 VM, 15 PWMB, 16 BIN2, 17 BIN1, 18 GND, 19 STBY, 20 VCC (power), 21 AIN1, 22 AIN2, 23 PWMA, 24 VM

## TFDU4101
designator *
footprint SOP-8-LINEAL
pins: 1 IRED A, 2 IRED K, 3 TX (in), 4 RX (out), 5 SD "Shutdown", 6 VCC (power), 8 GND (power)

## TPS613222
designator U?  (value not drawn)
footprint SOT-23-5
pins: 1 SW, 2 GND, 4 VOUT

## TSSP58038
designator B*
footprint TSSP58038
pins: 1 OUT, 2 GND, 3 VCC

## VNH5019A-E
designator *
pins: 1 OUTA, 3 VCC, 4 IN_A, 5 EN/DIAG A, 6 CS DIS/~{EN}, 8 CS, 9 EN/DIAG B, 10 IN_B, 11 CP, 12 Vbat, 13 VCC, 15 OUTB, 16 OUTB, 18 GNDB, 19 GNDB, 20 GNDB, 21 OUTB, 23 VCC, 25 OUTA, 26 GNDA, 27 GNDA, 28 GNDA, 30 OUTA, OUTA OUTA/heat2, OUTB OUTB/heat3, VCC VCC/heat1

## XL6009 Module
designator *
footprint XL6009 mdl
pins: 0 IN+, 1 IN-, 2 OUT-, 3 OUT+

## XTAL
designator X?  FREQUENCY: 16MHz  (hidden comment: *)
footprint HC-49/S
pins: 1, 2

## ZENER
designator D?  (value not drawn)
footprint DO-41
footprint DO-41 VERTICAL
footprint SOD-80
pins: A, K

## ZXMHC3F381N8
designator *
footprint SOIC-8
pins: 1 N1G, 2 P1D/N1D, 3 N1S/N2S, 4 N2G, 5 P2G, 6 P2D/N2D, 7 P1S/P2S, 8 P1G